# Altium footprint library RESISTOR.PcbLib: 8 footprints
Each footprint in its own frame and in the unit in brackets; x right, y up, seen from the top. Pads: shape width x height; smd on the part's side, far side on the other; paste and mask are expansions set on the pad; w line width, h text height; cw(c..) or ccw(c..) is an arc to the next point about the centre after c.
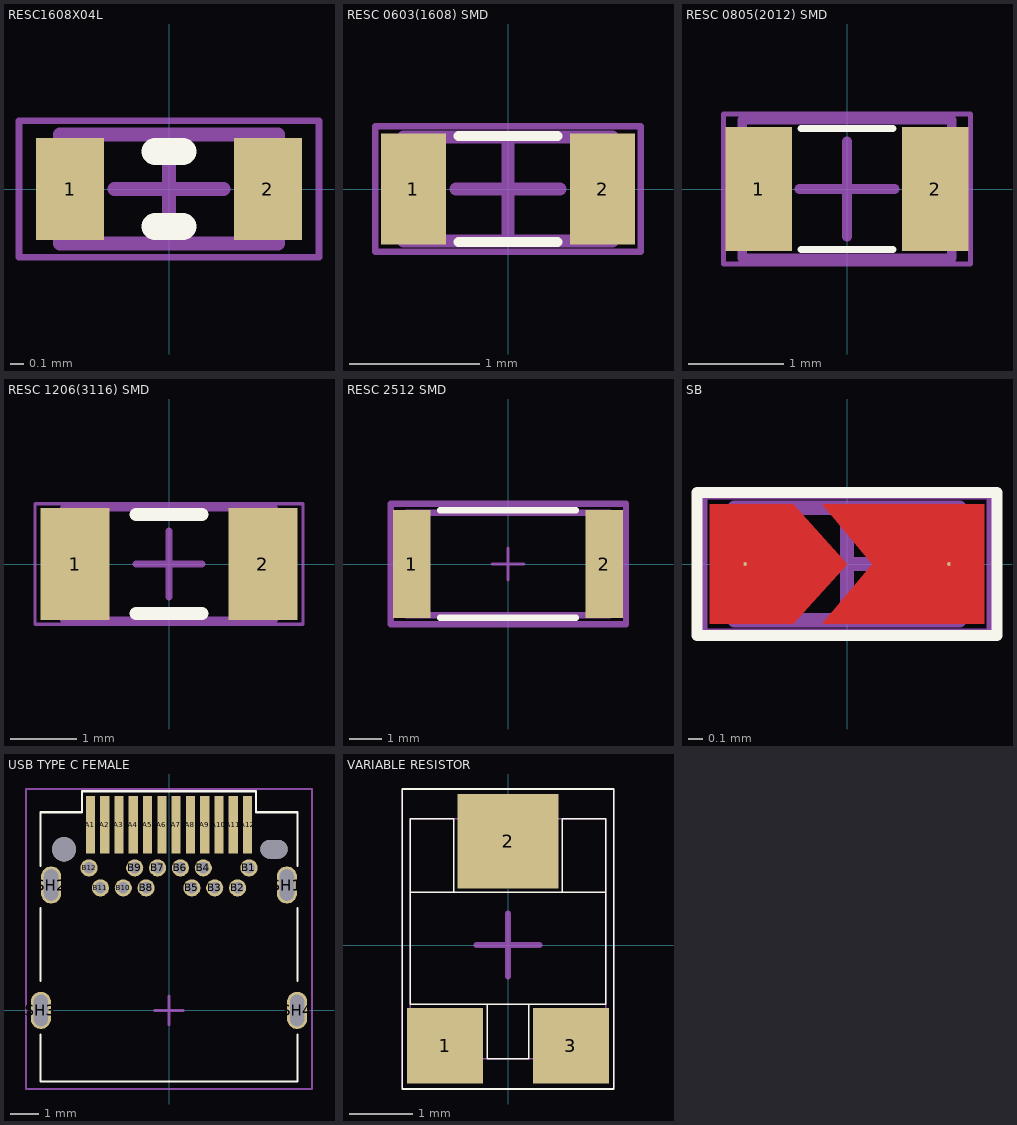
[diagram p0: the footprints below, top view; thin cyan lines are the x and y axes]

## RESC1608X04L [mm] "Chip Resistor, 2-Leads, Body 1.60x0.80mm, IPC High Density"
height 0.4
pads (2):
  rect 0.5x0.75 smd mask+0.05: 1(-0.725,0) 2(0.725,0)
Top Overlay:
  lines w0.2: -0.1,-0.275 0.1,-0.275 ; -0.1,0.275 0.1,0.275
Top Courtyard:
  lines w0.05: -1.1,-0.5 -1.1,0.5 1.1,0.5 1.1,-0.5 -1.1,-0.5
Top Assembly:
  lines w0.1: -0.8,-0.4 -0.8,0.4 0.8,0.4 0.8,-0.4 -0.8,-0.4
Top Component Center:
  lines w0.1: -0.4,0 0.4,0 ; 0,-0.4 0,0.4

## RESC 0603(1608) SMD [mm] "Chip Resistor 0603"
height 0.55
pads (2):
  rect 0.5x0.85 smd mask+0.05: 1(-0.725,0) 2(0.725,0)
Top Overlay:
  lines w0.076: -0.381,-0.406 0.381,-0.406 ; -0.381,0.406 0.381,0.406
Top Courtyard:
  lines w0.05: -1.016,-0.483 1.016,-0.483 1.016,0.483 -1.016,0.483 -1.016,-0.483
Top Assembly:
  lines w0.1: -0.8,-0.4 0.8,-0.4 0.8,0.4 -0.8,0.4 -0.8,-0.4
  text ".Designator" at 0,0.188 h1
Top Component Center:
  lines w0.1: -0.4,0 0.4,0 ; 0,-0.4 0,0.4
3D body "Resistor_0603_Text.step": height 0.47, standoff 0.01, extent -0.8,-0.4 0.8,0.4

## RESC 0805(2012) SMD [mm] "Chip Resistor 0805 SMD"
height 0.5
pads (2):
  rect 0.7x1.3 smd paste+0 mask+0.05: 1(-0.925,0) 2(0.925,0)
Top Overlay:
  lines w0.076: -0.483,-0.635 0.483,-0.635 ; -0.483,0.635 0.483,0.635
Top Assembly:
  lines w0.05: -1.295,-0.787 1.295,-0.787 1.295,0.787 -1.295,0.787 -1.295,-0.787
  text ".Designator" at 0,0.188 h1
Mechanical 13:
  lines w0.1: -1.1,-0.725 1.1,-0.725 1.1,0.725 -1.1,0.725 -1.1,-0.725
Mechanical 15:
  lines w0.05: -1.295,-0.787 1.295,-0.787 1.295,0.787 -1.295,0.787 -1.295,-0.787
Top Component Center:
  lines w0.1: -0.5,0 0.5,0 ; 0,-0.5 0,0.5
3D body "User Library-R SMD 0805.STEP": height 0.43, standoff -0.02, extent -0.999,-0.625 1.001,0.625

## RESC 1206(3116) SMD [mm] "Chip Resistor 1206"
height 0.65
pads (2):
  rect 1.05x1.7 smd paste+0 mask+0.05: 1(-1.425,0) 2(1.425,0)
Top Overlay:
  lines w0.2: -0.5,-0.75 0.5,-0.75 ; -0.5,0.75 0.5,0.75
Top Assembly:
  lines w0.05: -2.032,-0.914 2.032,-0.914 2.032,0.914 -2.032,0.914 -2.032,-0.914
  text ".Designator" at 0,0.188 h1
Mechanical 13:
  lines w0.1: -1.6,-0.85 1.6,-0.85 1.6,0.85 -1.6,0.85 -1.6,-0.85
Mechanical 15:
  lines w0.05: -2.032,-0.914 2.032,-0.914 2.032,0.914 -2.032,0.914 -2.032,-0.914
Top Component Center:
  lines w0.1: -0.5,0 0.5,0 ; 0,-0.5 0,0.5
3D body "rsmd-1206_l3-1_w1-6_h0-55.stp": height 0.55, standoff 0, extent -1.55,-0.8 1.55,0.8

## RESC 2512 SMD [mm] "Chip Resistor 2512 SMD"
pads (2):
  rect 1.158x3.358 smd paste+0: 1(-3.002,0) 2(3.002,0)
Top Overlay:
  lines w0.2: -2.123,-1.679 2.123,-1.679 ; -2.123,1.679 2.123,1.679
Top 3D Body:
  lines w0.2: -3.175,-1.6 3.175,-1.6 3.175,1.6 -3.175,1.6 -3.175,-1.6
Top Courtyard:
  lines w0.2: -3.658,-1.88 3.683,-1.88 3.683,1.88 -3.658,1.88 -3.658,-1.88
Top Assembly:
  lines w0.2: -3.658,-1.88 3.683,-1.88 3.683,1.88 -3.658,1.88 -3.658,-1.88
  text ".Designator" at 0,0.188 h1
Top Component Center:
  lines w0.1: -0.5,0 0.5,0 ; 0,-0.5 0,0.5
3D body "rsmd-2512_l6-4_w3-2_h0-6.stp": height 0.6, standoff 0, extent -3.2,-1.6 3.2,1.6

## SB [mil] "Jumper"
height 39.37
pads (2):
  round 1 smd mask+1.97: 1(-28.54,0) 2(28.54,0)
Top Layer:
  region: 7,0 -7,-16.73 38.39,-16.73 38.39,16.73 -7,16.73
  region: -38.39,-16.73 -15,-16.73 0,0 -15,16.73 -38.39,16.73
Top Overlay:
  lines w3: -42,-20 42,-20 42,20 -42,20 -42,-20
Top Courtyard:
  lines w1.97: -40,-19 -40,19 40,19 40,-19 -40,-19
Top Assembly:
  lines w3.94: -31.5,-15.75 -31.5,15.75 31.5,15.75 31.5,-15.75 -31.5,-15.75
  text ".Designator" at 0,7.39 h39.37
Top Component Center:
  lines w3.94: -15.75,0 15.75,0 ; 0,-15.75 0,15.75

## USB TYPE C FEMALE [mm]
pads (30):
  rect 0.32x2 smd: A1(-2.75,6.5) A2(-2.25,6.5) A3(-1.75,6.5) A4(-1.25,6.5) A5(-0.75,6.5) A6(-0.25,6.5) A7(0.25,6.5) A8(0.75,6.5) A9(1.25,6.5) A10(1.75,6.5) A11(2.25,6.5) A12(2.75,6.5)
  round 0.6 hole 0.4: B1(2.8,4.99) B2(2.4,4.29) B3(1.6,4.29) B4(1.2,4.99) B5(0.8,4.29) B6(0.4,4.99) B7(-0.4,4.99) B8(-0.8,4.29) B9(-1.2,4.99) B10(-1.6,4.29) B11(-2.4,4.29) B12(-2.8,4.99)
  oval 0.7x1.3 hole 0.5 slot 1.1 at 90 deg: SH1(4.125,4.39) SH2(-4.125,4.39) SH3(-4.485,0) SH4(4.485,0)
  round 0.85 hole 0.85 unplated: ""(-3.675,5.64)
  oval 0.95x0.65 hole 0.65 slot 0.95 at 0 deg unplated: ""(3.675,5.64)
Top Overlay:
  lines w0.076: -4.496,-0.838 -4.496,-2.489 4.496,-2.489 4.496,-0.838 ; -4.496,1.041 -4.496,3.581 ; -4.496,5.055 -4.496,6.934 -3.048,6.934 -3.048,7.671 3.048,7.671 3.048,6.934 4.496,6.934 4.496,5.055 ; 4.496,1.041 4.496,3.581
Top Assembly:
  text ".Designator" at 0,0.188 h1
Mechanical 15:
  lines w0.076: -5,-2.75 5,-2.75 5,7.75 -5,7.75 -5,-2.75
Top Component Center:
  lines w0.1: -0.5,0 0.5,0 ; 0,-0.5 0,0.5
3D body "CUI_DEVICES_UJ31-CH-3-SMT-TR.step": height 3.13, standoff -0.93, extent -4.48,-2.45 4.48,6.9

## VARIABLE RESISTOR [mm]
pads (3):
  rect 1.2x1.2 smd mask+0.05: 1(-1,-1.6) 3(1,-1.6)
  rect 1.6x1.5 smd mask+0.05: 2(0,1.65)
Top Overlay:
  lines w0.025: -1.551,0.838 -1.551,-0.94 1.549,-0.94 1.549,0.838 -1.551,0.838 ; -1.551,0.838 -1.551,2.007 -0.864,2.007 -0.864,0.838 -1.551,0.838 ; -1.676,-2.286 1.676,-2.286 1.676,2.476 -1.676,2.476 -1.676,-2.286 ; -0.33,-1.803 -0.33,-0.94 0.33,-0.94 0.33,-1.803 -0.33,-1.803 ; 0.864,0.838 0.864,2.007 1.551,2.007 1.551,0.838 0.864,0.838
Top 3D Body:
  lines w0.025: -1.549,-1.803 -1.549,2.007 1.549,2.007 1.549,-1.803 -1.549,-1.803
Top Assembly:
  text ".Designator" at 0,0.188 h1
Mechanical 15:
  lines w0.025: -1.676,-2.286 -1.676,2.476 1.676,2.476 1.676,-2.286 -1.676,-2.286
Top Component Center:
  lines w0.1: -0.5,0 0.5,0 ; 0,-0.5 0,0.5
3D body "EVM3ESX50Bxx-Panasonic.STEP": height 1.62, standoff 0, extent -1.551,-1.793 1.549,2.007